# EAGLE library part INA219 (library INA219)
INA219 - I2C Current/Power Monitor Voltage Range: 0-26V Accuracy: 0.5% Temperature: -40°C - 125°C
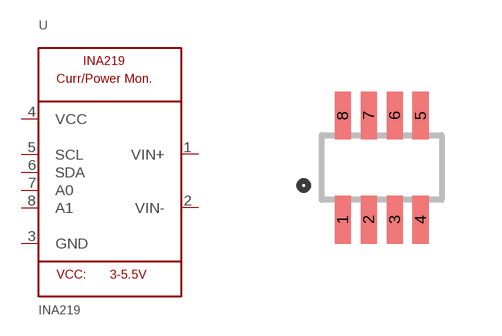
[diagram p0: symbol with the pads of SOT23-8; footprint SOT23-8]

Designator prefix U

## INA219 (Availability: Unavailable; Description: Current Monitor Regulator High-Side 10mA SOT-23-8; MF: Texas Instruments; MP: INA219; Package: SOT-23-8 Texas Instruments; Price: None)  [SOT23-8]
1  VIN+
2  VIN-
3  GND
4  VCC
5  SCL
6  SDA
7  A0
8  A1

## Footprint SOT23-8 (pad centres in mm)
Source: http://www.ti.com/lit/ml/mpds099c/mpds099c.pdf
smd 0.4 x 1.2: 1 -0.975,-1.3; 2 -0.325,-1.3; 3 0.325,-1.3; 4 0.975,-1.3; 5 0.975,1.3; 6 0.325,1.3; 7 -0.325,1.3; 8 -0.975,1.3